# Altium schematic symbol library 74HC595D_BJ_.SchLib: 1 symbol
Pins are listed as number, name and electrical type; pins without a type are passive.

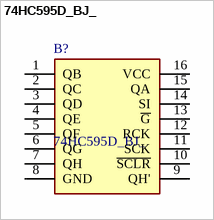
[diagram p0: symbol 74HC595D_BJ_]

## 74HC595D_BJ_
designator B?
Logic Gates CMOS 8-Bit Shift Register/Latch; Manufacturer_Name: Toshiba; Manufacturer_Part_Number: 74HC595D(BJ); Geometry.Height: 1.75mm; Mouser Part Number: 757-74HC595DBJ; Mouser Price/Stock: https://www.mouser.co.uk/ProductDetail/Toshiba/74HC595DBJ?qs=T%2FywbITssnTkqd02WdSNRg%3D%3D; Datasheet Link: https://componentsearchengine.com/Datasheets/1/74HC595D(BJ).pdf
footprint SOIC127P600X175-16N
pins: 1 QB, 2 QC, 3 QD, 4 QE, 5 QF, 6 QG, 7 QH, 8 GND, 9 QH', 10 ~{SCLR}, 11 SCK, 12 RCK, 13 ~{G}, 14 SI, 15 QA, 16 VCC